# Altium schematic symbol library SS3x.SchLib: 5 symbols
Pins are listed as number, name and electrical type; pins without a type are passive.

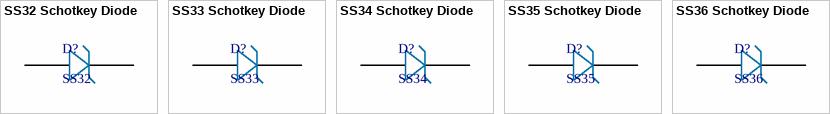
[diagram p0: symbols SS32 Schotkey Diode to SS36 Schotkey Diode]

## SS32 Schotkey Diode
designator D?, comment SS32
SS32 Schotkey Diode
footprint DO-214AA (JEDEC DO214 variation AA. SMB)
pins: 1 A "Anode", 2 K "Cathode"

## SS33 Schotkey Diode
designator D?, comment SS33
SS33 Schotkey Diode
footprint DO-214AA (JEDEC DO214 variation AA. SMB)
pins: 1 A "Anode", 2 K "Cathode"

## SS34 Schotkey Diode
designator D?, comment SS34
SS34 Schotkey Diode
footprint DO-214AA (JEDEC DO214 variation AA. SMB)
footprint DO-214AB (JEDEC DO214 variation AB. SMC)
pins: A 1 "Anode", K 2 "Cathode"

## SS35 Schotkey Diode
designator D?, comment SS35
SS35 Schotkey Diode
footprint DO-214AA (JEDEC DO214 variation AA. SMB)
pins: 1 A "Anode", 2 K "Cathode"

## SS36 Schotkey Diode
designator D?, comment SS36
SS36 Schotkey Diode
footprint DO-214AA (JEDEC DO214 variation AA. SMB)
pins: 1 A "Anode", 2 K "Cathode"